# Altium footprint library BM07B-GHS-TBT(LF)(SN)(N).PcbLib: 1 footprints
Each footprint in its own frame and in the unit in brackets; x right, y up, seen from the top. Pads: shape width x height; smd on the part's side, far side on the other; paste and mask are expansions set on the pad; w line width, h text height; cw(c..) or ccw(c..) is an arc to the next point about the centre after c.
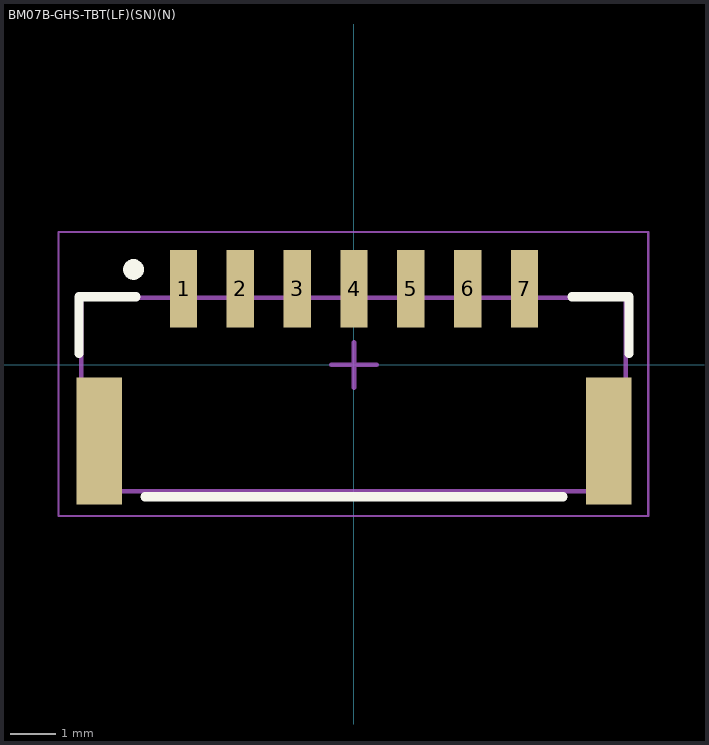
[diagram p0: the footprint, top view; thin cyan lines are the x and y axes]

## BM07B-GHS-TBT(LF)(SN)(N) [mm]
pads (9):
  rect 0.6x1.7 smd: 1(-3.75,1.675) 2(-2.5,1.675) 3(-1.25,1.675) 4(0,1.675) 5(1.25,1.675) 6(2.5,1.675) 7(3.75,1.675)
  rect 1x2.8 smd: ""(-5.6,-1.675) ""(5.6,-1.675)
Top Overlay:
  circle w0.254: c-4.85,2.1 r0.1
  lines w0.2: -6.05,0.25 -6.05,1.5 -4.8,1.5 ; -4.6,-2.9 4.6,-2.9 ; 4.8,1.5 6.05,1.5 6.05,0.25
Mechanical 1:
  lines w0.1: -6,-2.775 -6,1.475 5.975,1.475 5.975,-2.775 -6,-2.775
  text ".Designator" at -3.199,-1.258 h0.65
Mechanical 2:
  lines w0.05: -6.5,-3.325 -6.5,2.925 6.475,2.925 6.475,-3.325 -6.5,-3.325
  lines w0.1: -0.5,0 0.5,0 ; 0,-0.5 0,0.5
3D body "BM07B-GHS-TBT.STEP": height 4.18, standoff -0.03, extent -6.025,-2.75 5.975,2.2